# EAGLE library part GMC020080HR (library GMC020080HR)
Memory Card Connectors 2 In 1 Connector Sd+mmc Source: Datasheet <https://componentsearchengine.com/Datasheets/1/GMC020080HR.pdf>
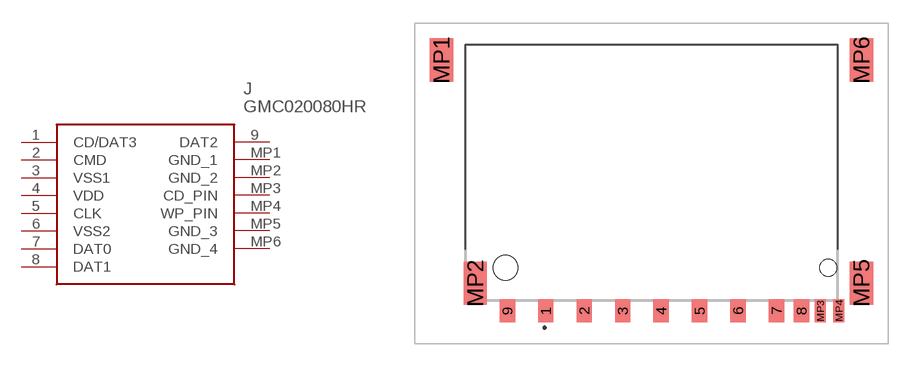
[diagram p0: symbol with the pads of GMC020080HR; footprint GMC020080HR]

Designator prefix J

## GMC020080HR (Description: Memory Card Connectors 2 In 1 Connector Sd+mmc; Height: 2.87mm; Manufacturer_Name: Amphenol; Manufacturer_Part_Number: GMC020080HR; Mouser_Part_Number: 523-GMC020080HR; Mouser_Price-Stock: https://www.mouser.co.uk/ProductDetail/Amphenol-Commercial-Products/GMC020080HR?qs=W0yvOO0ixfGUck2%252BUqFamw%3D%3D)  [GMC020080HR]
1  CD/DAT3
2  CMD
3  VSS1
4  VDD
5  CLK
6  VSS2
7  DAT0
8  DAT1
9  DAT2
MP1  GND_1
MP2  GND_2
MP3  CD_PIN
MP4  WP_PIN
MP5  GND_3
MP6  GND_4

## Footprint GMC020080HR (pad centres in mm)
GMC020080HR-4
smd 1 x 1.5: 1 -6.87,-9; 2 -4.37,-9; 3 -1.87,-9; 4 0.63,-9; 5 3.13,-9; 6 5.63,-9; 7 8.13,-9; 8 9.75,-9; 9 -9.37,-9
smd 1.5 x 2.8: MP1 -13.65,7.3; MP2 -11.45,-7.2; MP5 13.65,-7.2; MP6 13.65,7.3
smd 0.7 x 1.5: MP3 10.97,-9; MP4 12.18,-9
hole 1.6 at -9.5,-6.2
hole 1.1 at 11.5,-6.2